# EAGLE library part IN-14 (library 0-nixies-russian)
IN-14 Nixie Tube 170V Strike Voltage 2.5mA Digit Current 0.3mA Dot Current 2 Dots
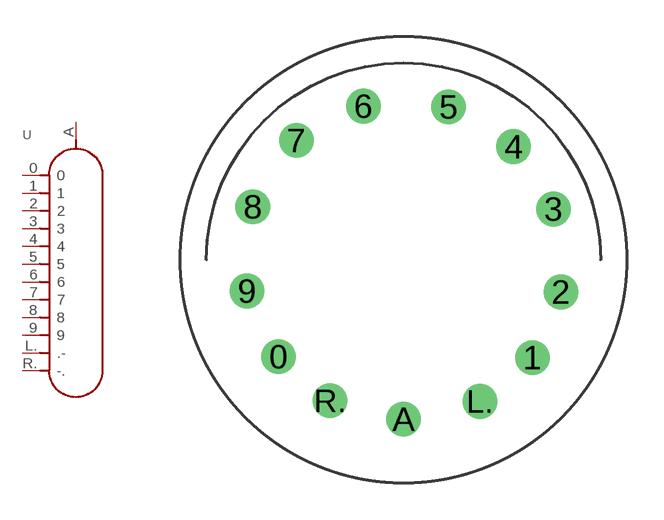
[diagram p2: symbol with the pads of IN-14; footprint IN-14]

Designator prefix -

## IN-14  [IN-14]
0  0
1  1
2  2
3  3
4  4
5  5
6  6
7  7
8  8
9  9
A  A
L.  .-
R.  -.

## Footprint IN-14 (pad centres in mm)
IN-14 Nixie
drill 0.9: 0 -5.08,-3.937; 1 5.232,-3.973; 2 6.393,-1.307; 3 6.089,2.063; 4 4.469,4.594; 5 1.822,6.213; 6 -1.621,6.243; 7 -4.348,4.846; 8 -6.12,2.154; 9 -6.35,-1.27; A 0,-6.477; L. 3.104,-5.752; R. -2.978,-5.725